# Altium schematic symbol library ShortCircuit.SchLib: 1 symbol
Pins are listed as number, name and electrical type; pins without a type are passive.

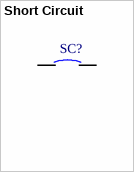
[diagram p0: symbol Short Circuit]

## Short Circuit
designator SC?  (value not drawn)
footprint RESC2012X07N (Chip Resistor, 2-Leads, Body 2.00x1.25mm, IPC Medium Density)
pins: 1, 2